# Altium footprint library TPS562200DDCR.PcbLib: 1 footprints
Each footprint in its own frame and in the unit in brackets; x right, y up, seen from the top. Pads: shape width x height; smd on the part's side, far side on the other; paste and mask are expansions set on the pad; w line width, h text height; cw(c..) or ccw(c..) is an arc to the next point about the centre after c.
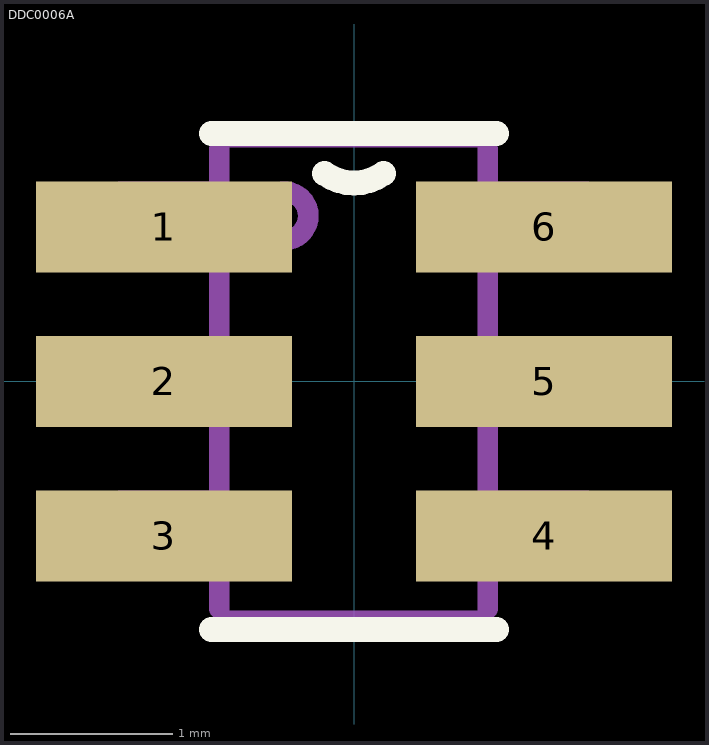
[diagram p0: the footprint, top view; thin cyan lines are the x and y axes]

## DDC0006A [mil]
pads (6):
  rect 62x22 smd paste-4 mask+2: 1(-46,37.4) 2(-46,0) 3(-46,-37.4) 4(46,-37.4) 5(46,0) 6(46,37.4)
Top Overlay:
  lines w6: -34.5,-60 34.5,-60 ; -34.5,60 34.5,60 ; -7.14,50.35 ccw(c0,60) 7.14,50.35
Mechanical 13:
  lines w5: -32.61,-54.94 -32.61,-54.79 -32.61,-44.68 ; -32.61,-28.94 -32.61,-7.28 ; -32.61,8.46 -32.61,30.12 ; -32.61,45.87 -32.61,55.97 -32.61,56.12 ; -31.55,-44.68 -35.55,-44.68 -44.42,-44.68 -45.63,-44.68 -49.26,-44.68 -56.58,-44.68 -56.58,-28.94 -49.26,-28.94 -45.63,-28.94 -44.42,-28.94 -35.55,-28.94 -31.55,-28.94 ; -31.55,-7.28 -35.55,-7.28 -44.42,-7.28 -45.63,-7.28 -49.26,-7.28 -56.58,-7.28 -56.58,8.46 -49.26,8.46 -45.63,8.46 -44.42,8.46 -35.55,8.46 -31.55,8.46 ; -31.55,30.12 -35.55,30.12 -44.42,30.12 -45.63,30.12 -49.26,30.12 -56.58,30.12 -56.58,45.87 -49.26,45.87 -45.63,45.87 -44.42,45.87 -35.55,45.87 -31.55,45.87 ; -29.68,-57.87 -29.53,-57.87 29.27,-57.87 29.42,-57.87 ; -29.68,59.06 -29.53,59.06 29.27,59.06 29.42,59.06 ; 31.29,-44.68 35.29,-44.68 44.16,-44.68 45.37,-44.68 49.01,-44.68 56.32,-44.68 56.32,-28.94 49.01,-28.94 45.37,-28.94 44.16,-28.94 35.29,-28.94 31.29,-28.94 ; 31.29,-7.28 35.29,-7.28 44.16,-7.28 45.37,-7.28 49.01,-7.28 56.32,-7.28 56.32,8.46 49.01,8.46 45.37,8.46 44.16,8.46 35.29,8.46 31.29,8.46 ; 31.29,30.12 35.29,30.12 44.16,30.12 45.37,30.12 49.01,30.12 56.32,30.12 56.32,45.87 49.01,45.87 45.37,45.87 44.16,45.87 35.29,45.87 31.29,45.87 ; 32.35,-54.94 32.35,-54.79 32.35,-44.68 ; 32.35,-28.94 32.35,-7.28 ; 32.35,8.46 32.35,30.12 ; 32.35,45.87 32.35,55.97 32.35,56.12 ; -22.77,40.07 cw(c-16.91,40.07) -11.05,40.07 cw(c-16.91,40.07) -22.77,40.07